# Altium footprint library Power_Card_1.PcbLib: 40 footprints (part 1 of 3)
Each footprint in its own frame and in the unit in brackets; x right, y up, seen from the top. Pads: shape width x height; smd on the part's side, far side on the other; paste and mask are expansions set on the pad; w line width, h text height; cw(c..) or ccw(c..) is an arc to the next point about the centre after c.
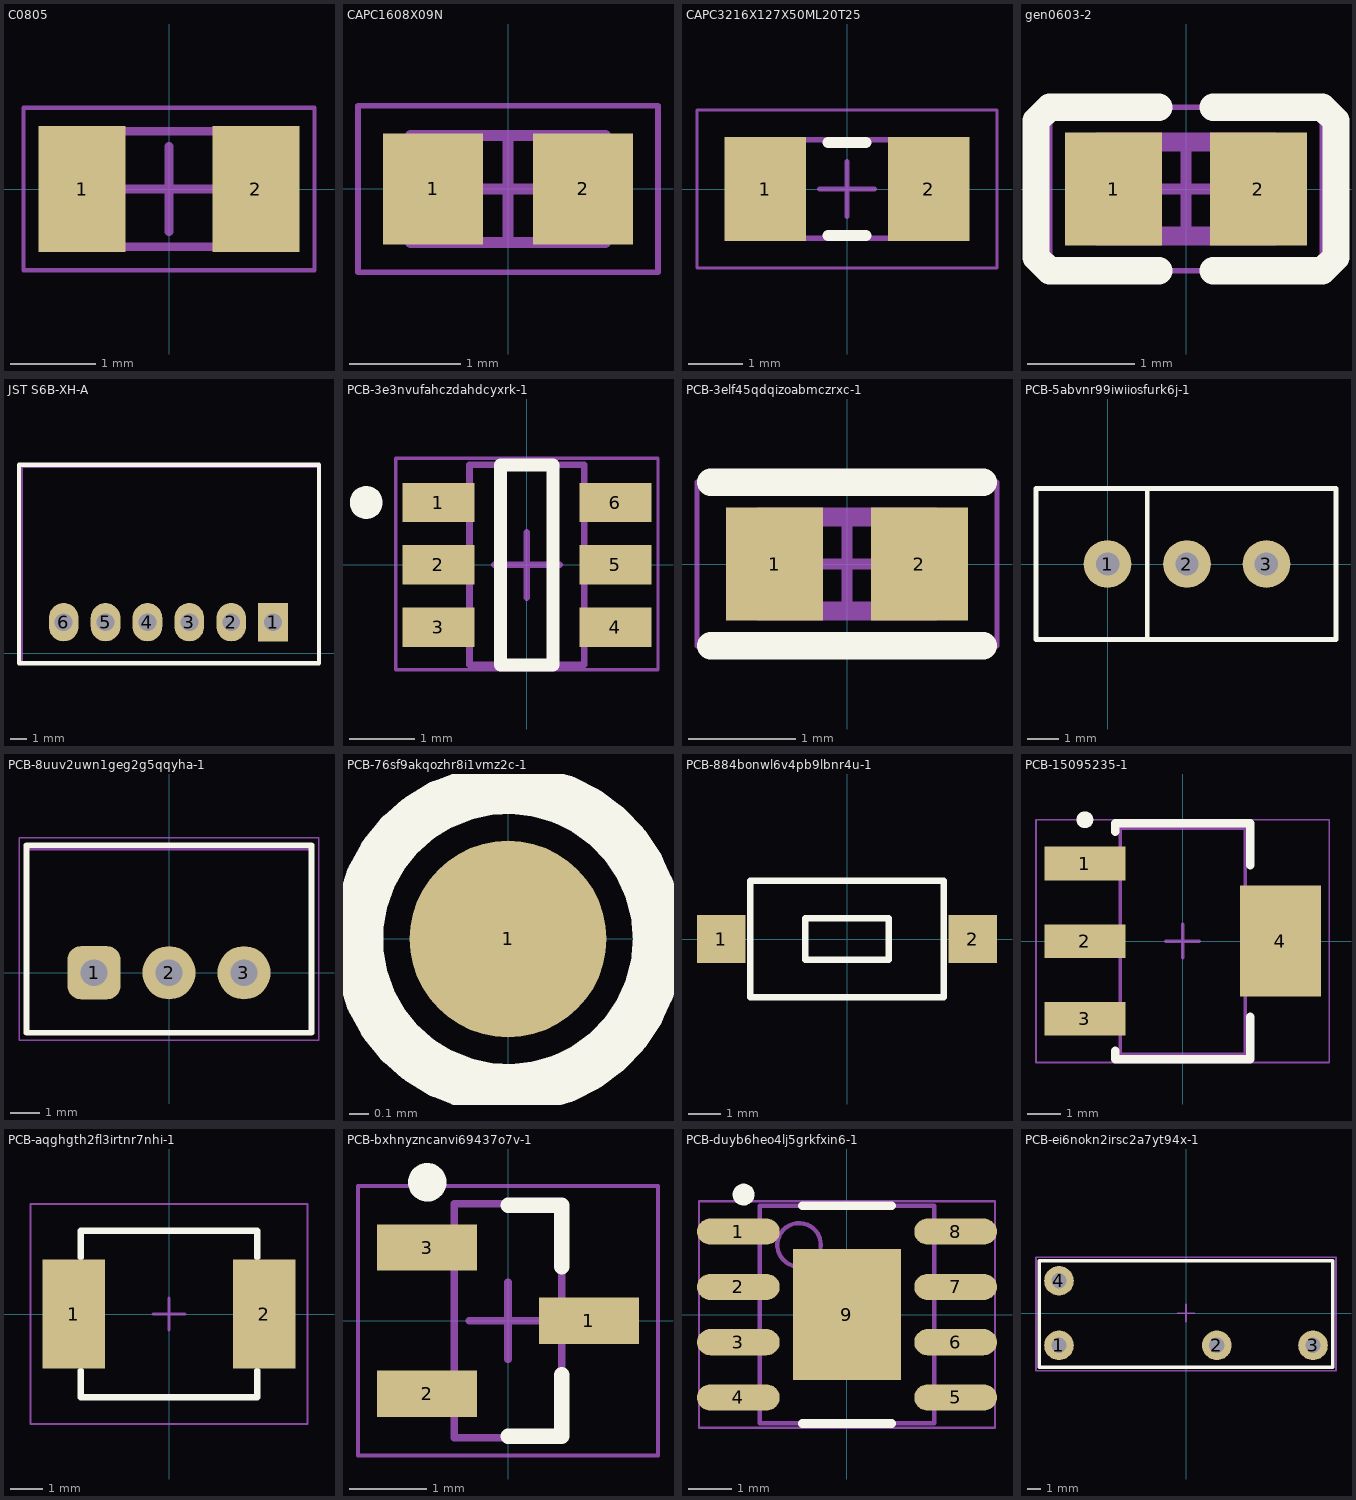
[diagram p0: the footprints below, top view; thin cyan lines are the x and y axes]

## C0805 [mil]
pads (2):
  rect 40x58 smd: 1(-40,0) 2(40,0)
Mechanical 13:
  lines w3.94: -41.34,-26.57 -41.34,26.57 41.34,26.57 41.34,-26.57 -41.34,-26.57
Mechanical 15:
  lines w1.97: -66.93,-37.4 -66.93,37.4 66.93,37.4 66.93,-37.4 -66.93,-37.4
  lines w3.94: -19.69,0 19.68,0 ; 0,-19.68 0,19.69
3D body: height 53.15, standoff 0, extent -23.62,-26.57 23.62,26.57
3D body: height 53.15, standoff 0, extent -41.34,-26.57 -23.62,26.57
3D body: height 53.15, standoff 0, extent 23.62,-26.57 41.34,26.57

## CAPC1608X09N [mm]
pads (2):
  rect 0.9x1 smd: 1(-0.675,0) 2(0.675,0)
Mechanical 13:
  lines w0.1: -0.875,-0.48 -0.875,0.48 0.875,0.48 0.875,-0.48 -0.875,-0.48
Mechanical 15:
  lines w0.05: -1.35,-0.75 -1.35,0.75 1.35,0.75 1.35,-0.75 -1.35,-0.75
  lines w0.1: -0.48,0 0.48,0 ; 0,-0.48 0,0.48
3D body "06035c103kat2a.stp": height 0.45, standoff 0, extent -0.8,-0.4 0.8,0.4

## CAPC3216X127X50ML20T25 [mm]
pads (2):
  rect 1.5x1.9 smd: 1(-1.5,0) 2(1.5,0)
Top Overlay:
  lines w0.2: -0.35,-0.85 0.35,-0.85 ; -0.35,0.85 0.35,0.85
Mechanical 13:
  lines w0.1: -1.7,-0.9 1.7,-0.9 1.7,0.9 -1.7,0.9 -1.7,-0.9
Mechanical 15:
  lines w0.05: -2.75,-1.45 2.75,-1.45 2.75,1.45 -2.75,1.45 -2.75,-1.45
  lines w0.1: -0.5,0 0.5,0 ; 0,-0.5 0,0.5
3D body: height 1.27, standoff 0, extent 1.2,-0.9 1.7,0.9
3D body: height 1.27, standoff 0, extent -1.7,-0.9 -1.2,0.9
3D body: height 1.27, standoff 0, extent -1.2,-0.9 1.2,0.9

## gen0603-2 [mm]
pads (2):
  rect 0.9x1.05 smd: 1(-0.675,0) 2(0.675,0)
Top Overlay:
  lines w0.254: -0.254,-0.762 -1.27,-0.762 -1.397,-0.635 -1.397,0.635 -1.27,0.762 -0.254,0.762 ; 0.254,-0.762 1.27,-0.762 1.397,-0.635 1.397,0.635 1.27,0.762 1.143,0.762 0.254,0.762
Mechanical 6:
  text ".designator" at -0.9,-0.3 h0.6
Mechanical 8:
  lines w0.1: -0.85,-0.4 -0.85,0.4 0.85,0.4 0.85,-0.4 -0.85,-0.4
Mechanical 13:
  lines w0.1: -0.825,-0.475 -0.825,0.475 0.825,0.475 0.825,-0.475 -0.825,-0.475
Mechanical 15:
  lines w0.05: -1.27,-0.762 -1.27,0.762 1.27,0.762 1.27,-0.762 -1.27,-0.762
  lines w0.1: -0.475,0 0.475,0 ; 0,-0.475 0,0.475
3D body "User Library-RES_1609-0603.step": height 0.59, standoff 0.03, extent -0.85,-0.4 0.85,0.4

## JST S6B-XH-A [mil]
pads (6):
  rect 70x90 hole 42: 1(-332.87,73)
  oval 70x90 hole 42: 2(-431.3,73) 3(-529.72,73) 4(-628.15,73) 5(-726.57,73) 6(-825,73)
Top Overlay:
  lines w10: -930,-23.38 -930,443 -225,443 -225,-23.38 -930,-23.38
Mechanical 8:
  lines w5: -923.43,-22 -923.43,438 -225,438 -225,-22 -923.43,-22
3D body "S6B-XH-A.STEP": height 242.13, standoff -133.86, extent -920,-17 -234.96,435.76

## PCB-3e3nvufahczdahdcyxrk-1 [mm]
pads (6):
  rect 1.1x0.6 smd mask+0.07: 1(-1.35,0.95) 2(-1.35,0) 3(-1.35,-0.95) 4(1.35,-0.95) 5(1.35,0) 6(1.35,0.95)
Top Overlay:
  circle w0.25: c-2.45,0.95 r0.125
  lines w0.2: -0.4,-1.525 0.4,-1.525 0.4,1.525 -0.4,1.525 -0.4,-1.525
Mechanical 13:
  lines w0.1: -0.875,-1.525 0.875,-1.525 0.875,1.525 -0.875,1.525 -0.875,-1.525
Mechanical 15:
  lines w0.05: -2,-1.6 -2,1.625 2,1.625 2,-1.6 -2,-1.6
  lines w0.1: -0.5,0 0.5,0 ; 0,-0.5 0,0.5
3D body "User Library-SOT23-6-2.step": height 1.45, standoff 0, extent -1.4,-1.45 1.4,1.45

## PCB-3elf45qdqizoabmczrxc-1 [mm]
pads (2):
  rect 0.9x1.05 smd: 1(-0.675,0) 2(0.675,0)
Top Overlay:
  lines w0.254: -1.27,-0.762 1.27,-0.762 ; -1.27,0.762 1.27,0.762
Mechanical 6:
  text ".designator" at -0.9,-0.3 h0.6
Mechanical 8:
  lines w0.1: -0.85,-0.4 0.85,-0.4 0.85,0.4 -0.85,0.4 -0.85,-0.4
Mechanical 13:
  lines w0.1: -0.825,-0.475 0.825,-0.475 0.825,0.475 -0.825,0.475 -0.825,-0.475
Mechanical 15:
  lines w0.05: -1.397,-0.762 1.397,-0.762 1.397,0.762 0.537,0.762 -1.113,0.762 -1.397,0.762 -1.397,-0.762
  lines w0.1: -0.475,0 0.475,0 ; 0,-0.475 0,0.475
3D body "User Library-RES_1609-0603.step": height 0.59, standoff 0.03, extent -0.85,-0.4 0.85,0.4

## PCB-5abvnr99iwiiosfurk6j-1 [mil]
pads (3):
  round 60 hole 29.53: 1(0,0) 2(100,0) 3(200,0)
Top Overlay:
  lines w6: 50,-95 50,95 ; -90,-95 -90,95 287.5,95 287.5,-95 -90,-95
3D body "3296W.stp": height 436.14, standoff -270.93, extent -87.5,-95 287.5,95.24

## PCB-8uuv2uwn1geg2g5qqyha-1 [mm]
pads (3):
  rrect50% 1.8x1.8 hole 0.9: 1(-2.54,0)
  round 1.8 hole 0.9: 2(0,0) 3(2.54,0)
Top Overlay:
  lines w0.2: -4.826,-2.032 4.826,-2.032 4.826,4.318 -4.826,4.318 -4.826,-2.032
Mechanical 13:
  lines w0.1: -4.826,-2.032 4.826,-2.032 4.826,4.191 -4.826,4.191 -4.826,-2.032
Mechanical 15:
  lines w0.05: -5.08,-2.286 -5.08,4.572 5.08,4.572 5.08,-2.286 -5.08,-2.286
  lines w0.1: -0.5,0 0.5,0 ; 0,-0.5 0,0.5
3D body "User Library-Trimpot_Vertical.step": height 11.56, standoff -6.22, extent -4.762,-1.905 4.763,4.191

## PCB-76sf9akqozhr8i1vmz2c-1 [mil]
pads (1):
  round 40 smd: 1(0,0)
Top Overlay:
  circle w10.16: c-0.01,0 r30.5

## PCB-884bonwl6v4pb9lbnr4u-1 [mm]
pads (2):
  rect 1.5x1.5 smd: 1(-3.9,0) 2(3.9,0)
Top Overlay:
  lines w0.2: -3,-1.8 -3,1.8 3,1.8 3,-1.8 -3,-1.8 ; -1.3,-0.65 -1.3,0.65 1.3,0.65 1.3,-0.65 -1.3,-0.65
3D body "Pulsador.stp": height 4.29, standoff -0.01, extent -4,-1.75 4,1.75

## PCB-15095235-1 [mm]
pads (4):
  rect 2.4x1 smd: 1(-2.9,2.3) 2(-2.9,0) 3(-2.9,-2.3)
  rect 2.4x3.3 smd: 4(2.9,0)
Top Overlay:
  circle w0.25: c-2.9,3.6 r0.125
  lines w0.254: -2,-3.25 -2,-3.5 2,-3.5 2,-2.25 ; -2,3.25 -2,3.5 2,3.5 2,2.25
Mechanical 13:
  lines w0.1: -1.855,-3.35 -1.855,3.35 1.855,3.35 1.855,-3.35 -1.855,-3.35
Mechanical 15:
  lines w0.05: -4.35,-3.6 -4.35,3.6 4.35,3.6 4.35,-3.6 -4.35,-3.6
  lines w0.1: -0.5,0 0.5,0 ; 0,-0.5 0,0.5
3D body: height 1.8, standoff 0.03, extent -1.855,-3.35 1.855,3.35

## PCB-aqghgth2fl3irtnr7nhi-1 [mm]
pads (2):
  rect 1.95x3.4 smd: 1(-2.975,0) 2(2.975,0)
Top Overlay:
  lines w0.2: -2.75,-1.775 -2.75,-2.6 2.75,-2.6 2.75,-1.775 ; -2.75,1.775 -2.75,2.6 2.75,2.6 2.75,1.775
Mechanical 13:
  lines w0.1: -2.745,-2.59 2.745,-2.59 2.745,2.59 -2.745,2.59 -2.745,-2.59
Mechanical 15:
  lines w0.05: -4.318,-3.429 4.318,-3.429 4.318,3.429 -4.318,3.429 -4.318,-3.429
  lines w0.1: -0.5,0 0.5,0 ; 0,-0.5 0,0.5
3D body: height 2, standoff 0, extent -2.745,-2.59 2.745,2.59

## PCB-bxhnyzncanvi69437o7v-1 [mm]
pads (3):
  rect 1.3x0.6 smd: 1(1.05,0) 2(-1.05,-0.95) 3(-1.05,0.95)
Top Overlay:
  circle w0.25: c-1.05,1.8 r0.125
  lines w0.2: 0,-1.5 0.7,-1.5 0.7,-0.7 ; 0,1.5 0.7,1.5 0.7,0.7
Mechanical 13:
  lines w0.1: -0.7,-1.52 0.7,-1.52 0.7,1.52 -0.7,1.52 -0.7,-1.52
Mechanical 15:
  lines w0.05: -1.95,-1.75 1.95,-1.75 1.95,1.75 -1.95,1.75 -1.95,-1.75
  lines w0.1: -0.5,0 0.5,0 ; 0,-0.5 0,0.5
3D body: height 1.12, standoff 0.03, extent -0.7,-1.52 0.7,1.52

## PCB-duyb6heo4lj5grkfxin6-1 [mm]
pads (9):
  oval 1.9x0.6 smd: 1(-2.495,1.905) 2(-2.495,0.635) 3(-2.495,-0.635) 4(-2.495,-1.905) 5(2.495,-1.905) 6(2.495,-0.635) 7(2.495,0.635) 8(2.495,1.905)
  rect 2.49x3 smd: 9(0,0)
Top Overlay:
  circle w0.25: c-2.375,2.755 r0.125
  lines w0.2: -1.025,-2.5 1.025,-2.5 ; -1.025,2.5 1.025,2.5
Mechanical 13:
  circle w0.1: c-1.1,1.6 r0.5
  lines w0.1: -2,-2.5 2,-2.5 2,2.5 -2,2.5 -2,-2.5
Mechanical 15:
  lines w0.05: -3.4,-2.6 3.4,-2.6 3.4,2.6 -3.4,2.6 -3.4,-2.6
  lines w0.1: -0.5,0 0.5,0 ; 0,-0.5 0,0.5
3D body: height 1.7, standoff 0, extent -2,-2.5 2,2.5

## PCB-ei6nokn2irsc2a7yt94x-1 [mil]
pads (4):
  round 85 hole 44: 1(-364.17,-92.52) 2(88.58,-92.52) 3(364.17,-92.52) 4(-364.17,92.52)
Top Overlay:
  lines w10: -420,-155 420,-155 420,150 -420,150 -420,-155
Mechanical 15:
  lines w5: -25,0 25,0 ; 0,-25 0,25 ; -430,-165 430,-165 430,160 -430,160 -430,-165
3D body "G5NB_1A.step": height 602.36, standoff -133.86, extent -408.54,-143.47 398.54,140